# Altium schematic symbol library MP6539CGV-P.SchLib: 1 symbol
Pins are listed as number, name and electrical type; pins without a type are passive.

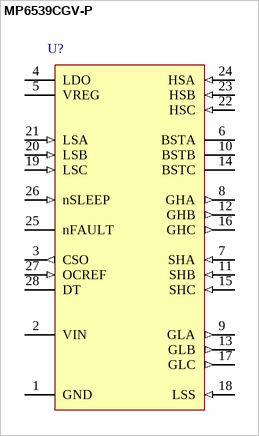
[diagram p0: symbol MP6539CGV-P]

## MP6539CGV-P
designator U?
pins: 1 GND (power), 2 VIN (power), 3 CSO (out), 4 LDO (power), 5 VREG (power), 6 BSTA (power), 7 SHA (in), 8 GHA (out), 9 GLA (out), 10 BSTB (power), 11 SHB (in), 12 GHB (out), 13 GLB (out), 14 BSTC (power), 15 SHC (in), 16 GHC (out), 17 GLC (out), 18 LSS (in), 19 LSC (in), 20 LSB (in), 21 LSA (in), 22 HSC (in), 23 HSB (in), 24 HSA (in), 25 nFAULT (oc), 26 nSLEEP (in), 27 OCREF (in), 28 DT